# Altium schematic symbol library Special function.SchLib: 1 symbol
Pins are listed as number, name and electrical type; pins without a type are passive.

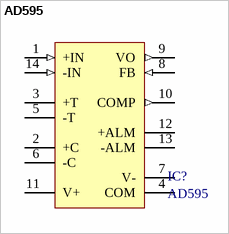
[diagram p0: symbol AD595]

## AD595
designator IC?
Type K thermocoupler conditioner; Supplier 1: Farnell; Supplier Part Number 1: 2563149
footprint AD595 (Thermocouple conditioner)
pins: 1 +IN (in), 2 +C, 3 +T, 4 COM (power), 5 -T, 6 -C, 7 V- (power), 8 FB (in), 9 VO (out), 10 COMP (out), 11 V+ (power), 12 +ALM, 13 -ALM, 14 -IN (in)